# Altium integrated library 74HC4051PW_118.IntLib: 1 symbol
Pins are listed as number, name and electrical type; pins without a type are passive.

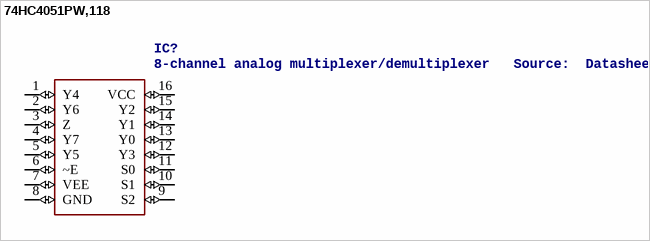
[diagram p0: symbol 74HC4051PW,118]

## 74HC4051PW,118
designator IC?, comment 8-channel analog multiplexer/demultiplexer   Source:  Datasheet
Manufacturer_Name: Nexperia; Manufacturer_Part_Number: 74HC4051PW,118; RS_Part_Number: 1707982; RS_Price-Stock: http://uk.rs-online.com/web/p/products/1707982; Mouser_Part_Number: 771-74HC4051PW-T; Mouser_Price-Stock: https://www.mouser.com/Search/Refine.aspx?Keyword=771-74HC4051PW-T; Description: 8-channel analog multiplexer/demultiplexer; Height: mm
footprint SOP65P640X110-16N
pins: 1 Y4 (io), 2 Y6 (io), 3 Z (io), 4 Y7 (io), 5 Y5 (io), 6 ~E (io), 7 VEE (io), 8 GND (io), 9 S2 (io), 10 S1 (io), 11 S0 (io), 12 Y3 (io), 13 Y0 (io), 14 Y1 (io), 15 Y2 (io), 16 VCC (io)